# EAGLE library part COLUMN (library expboard)
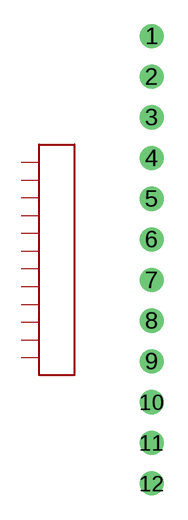
[diagram p0: symbol with the pads of COLUMN; footprint COLUMN]

Designator prefix -

## COLUMN  [COLUMN]
1  1
2  2
3  3
4  4
5  5
6  6
7  7
8  8
9  9
10  10
11  11
12  12

## Footprint COLUMN (pad centres in mm)
drill 1 round: 1 0,15.24; 2 0,12.7; 3 0,10.16; 4 0,7.62; 5 0,5.08; 6 0,2.54; 7 0,0; 8 0,-2.54; 9 0,-5.08; 10 0,-7.62; 11 0,-10.16; 12 0,-12.7